# Altium schematic symbol library Ag99XXXX.SchLib: 1 symbol
Pins are listed as number, name and electrical type; pins without a type are passive.

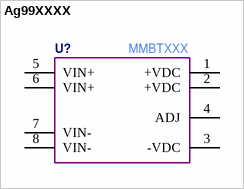
[diagram p0: symbol Ag99XXXX]

## Ag99XXXX
designator U?  Manufacturer Part Number: MMBTXXX  (hidden comment: *)
pins: 1 +VDC, 2 +VDC, 3 -VDC, 4 ADJ, 5 VIN+, 6 VIN+, 7 VIN-, 8 VIN-